# Altium footprint library 28Pins_Project_V1I1_PCB.PcbLib: 26 footprints (part 2 of 2)
Each footprint in its own frame and in the unit in brackets; x right, y up, seen from the top. Pads: shape width x height; smd on the part's side, far side on the other; paste and mask are expansions set on the pad; w line width, h text height; cw(c..) or ccw(c..) is an arc to the next point about the centre after c.
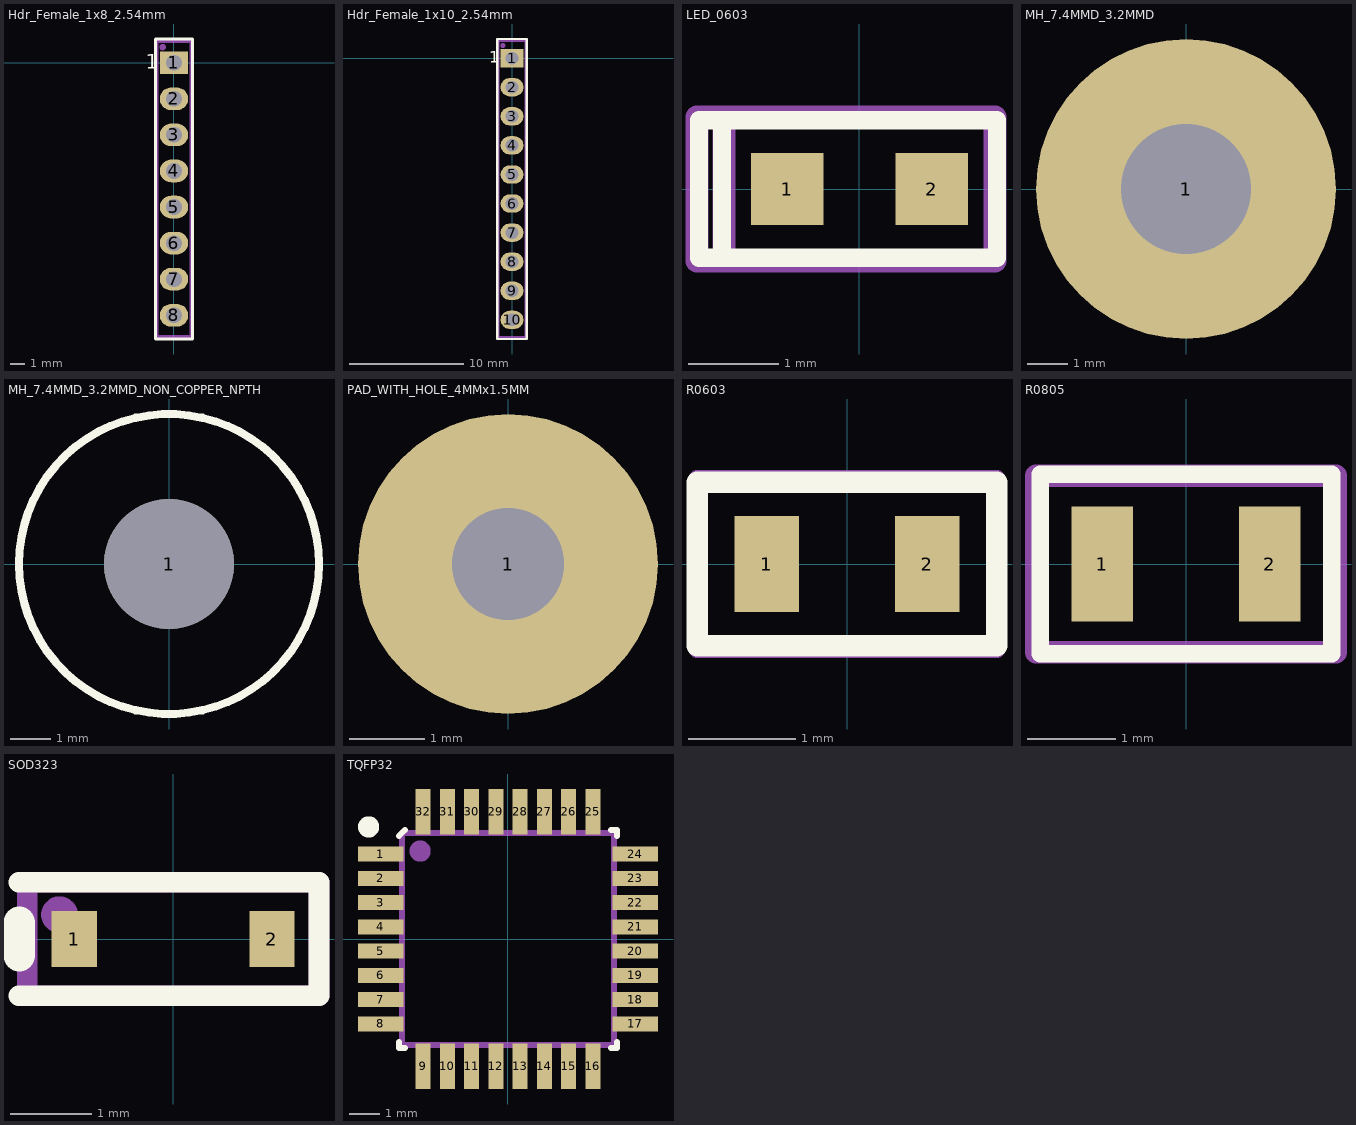
[diagram p1: the footprints below, top view; thin cyan lines are the x and y axes]

## Hdr_Female_1x8_2.54mm [mm] "Creator MM"
pads (8):
  rect 2x1.6 hole 1.1: 1(0,0)
  oval 2x1.6 hole 1.1: 2(0,-2.54) 3(0,-5.08) 4(0,-7.62) 5(0,-10.16) 6(0,-12.7) 7(0,-15.24) 8(0,-17.78)
Top Overlay:
  lines w0.2: -1.3,-19.45 1.3,-19.45 1.3,1.67 -1.3,1.67 -1.3,-19.45
  text "1" at -2,-0.41 h1.02
Mechanical 29:
  circle w0.254: c-0.8,1.1 r0.1
  lines w0.2: -1.2,-19.28 1.2,-19.28 1.2,1.5 -1.2,1.5 -1.2,-19.28
  text ".Designator" at 0.7,-11.24 h1.52
3D body "female_header_a-bl254-eg-g08d.stp": height 8.5, standoff -3.2, extent -1.25,-19.185 1.25,1.385

## Hdr_Female_1x10_2.54mm [mm] "Creator MM"
pads (10):
  rect 2x1.6 hole 1.1: 1(0,0)
  oval 2x1.6 hole 1.1: 2(0,-2.54) 3(0,-5.08) 4(0,-7.62) 5(0,-10.16) 6(0,-12.7) 7(0,-15.24) 8(0,-17.78) 9(0,-20.32) 10(0,-22.86)
Top Overlay:
  lines w0.2: -1.3,-24.53 1.3,-24.53 1.3,1.67 -1.3,1.67 -1.3,-24.53
  text "1" at -2,-0.41 h1.02
Mechanical 29:
  circle w0.254: c-0.8,1.1 r0.1
  lines w0.2: -1.2,-24.36 1.2,-24.36 1.2,1.5 -1.2,1.5 -1.2,-24.36
  text ".Designator" at 0.7,-13.78 h1.52
3D body "female_header_a-bl254-eg-g10d.stp": height 8.5, standoff -3.2, extent -1.25,-24.255 1.25,1.395

## LED_0603 [mm]
pads (2):
  rect 0.8x0.8 smd: 1(-0.8,0) 2(0.8,0)
Top Overlay:
  lines w0.2: -1.524,-0.762 -1.524,0.762 ; -1.778,-0.762 1.524,-0.762 1.524,0.762 -1.778,0.762 -1.778,-0.762
Mechanical 29:
  lines w0.254: -1.5,-0.8 -1.5,0.8 ; -1.8,-0.8 -1.8,0.8 1.5,0.8 1.5,-0.8 -1.8,-0.8
  text ".Designator" at -1.1,-0.3 h0.6
3D body "LED SMD 0603.step": height 0.65, standoff 0, extent -0.85,-0.4 0.85,0.4
3D body: height 0.66, standoff 0.5, extent -0.2,-0.2 0.2,0.2

## MH_7.4MMD_3.2MMD [mm]
pads (1):
  round 7.4 / inner round 3.683 / far side round 7.4 hole 3.2 mask+0.025: 1(0,0)

## MH_7.4MMD_3.2MMD_NON_COPPER_NPTH [mm] "Creator MM"
pads (1):
  round 3.2 hole 3.2 unplated mask+0.025: 1(0,0)
Top Overlay:
  circle w0.2: c0,0 r3.7

## PAD_WITH_HOLE_4MMx1.5MM [mm]
pads (1):
  round 4 hole 1.5: 1(0,0)

## R0603 [mm]
pads (2):
  rect 0.6x0.9 smd: 1(-0.75,0) 2(0.75,0)
Top Overlay:
  lines w0.2: -1.397,-0.762 -1.397,0.762 1.397,0.762 1.397,-0.762 -1.397,-0.762
Mechanical 29:
  lines w0.15: -1.4,-0.8 -1.4,0.8 1.4,0.8 1.4,-0.8 -1.4,-0.8
  text ".Designator" at -1.1,-0.4 h0.6
3D body "R0603.step": height 0.8, standoff 0, extent -0.8,-0.42 0.8,0.42

## R0805 [mm]
pads (2):
  rect 0.7x1.3 smd: 1(-0.95,0) 2(0.95,0)
Top Overlay:
  lines w0.2: -1.651,-1.016 -1.651,1.016 1.651,1.016 1.651,-1.016 -1.651,-1.016
Mechanical 29:
  lines w0.254: -1.7,-1 -1.7,1 1.7,1 1.7,-1 -1.7,-1
  text ".Designator" at -1.4,-0.6 h0.8
3D body "R0805.step": height 0.7, standoff 0, extent -1,-0.6 1,0.6

## SOD323 [mil]
pads (2):
  rect 22x27 smd mask+3: 1(-48,0) 2(48,0)
Top Overlay:
  lines w10: -74.8,-27.56 70.87,-27.56 70.87,27.56 -74.8,27.56
  lines w15.75: -74.8,-7.87 -74.8,7.87
Mechanical 29:
  circle w10: c-55.12,11.81 r3.94
  lines w10: -70.87,-27.56 70.87,-27.56 70.87,27.56 -70.87,27.56 -70.87,-27.56
  text ".Designator" at -39.37,-7.87 h15.75
3D body "SOD323.step": height 38.78, standoff -0.2, extent -49.21,-24.6 49.21,24.61

## TQFP32 [mm] "Creator MM"
pads (32):
  rect 1.5x0.5 smd mask+0.06: 1(-4.2,2.8) 2(-4.2,2) 3(-4.2,1.2) 4(-4.2,0.4) 5(-4.2,-0.4) 6(-4.2,-1.2) 7(-4.2,-2) 8(-4.2,-2.8) 17(4.2,-2.8) 18(4.2,-2) 19(4.2,-1.2) 20(4.2,-0.4) 21(4.2,0.4) 22(4.2,1.2) 23(4.2,2) 24(4.2,2.8)
  rect 0.5x1.5 smd mask+0.06: 9(-2.8,-4.2) 10(-2,-4.2) 11(-1.2,-4.2) 12(-0.4,-4.2) 13(0.4,-4.2) 14(1.2,-4.2) 15(2,-4.2) 16(2.8,-4.2) 25(2.8,4.2) 26(2,4.2) 27(1.2,4.2) 28(0.4,4.2) 29(-0.4,4.2) 30(-1.2,4.2) 31(-2,4.2) 32(-2.8,4.2)
Top Overlay:
  circle w0.5: c-4.6,3.7 r0.1
  lines w0.2: -3.6,-3.4 -3.6,-3.6 -3.4,-3.6 ; -3.6,3.4 -3.4,3.6 ; 3.4,-3.6 3.6,-3.6 3.6,-3.4 ; 3.4,3.6 3.6,3.6 3.6,3.4
Mechanical 29:
  circle w0.5: c-2.9,2.9 r0.1
  lines w0.2: -3.5,-3.5 3.5,-3.5 3.5,3.5 -3.5,3.5 -3.5,-3.5
  text ".Designator" at -2.2,-0.8 h1.8
3D body "tqfp32.step": height 1.2, standoff 0, extent -4.599,-4.6 4.599,4.599